# EAGLE library part M16C/20(56PIN) (library renesas_mcu)
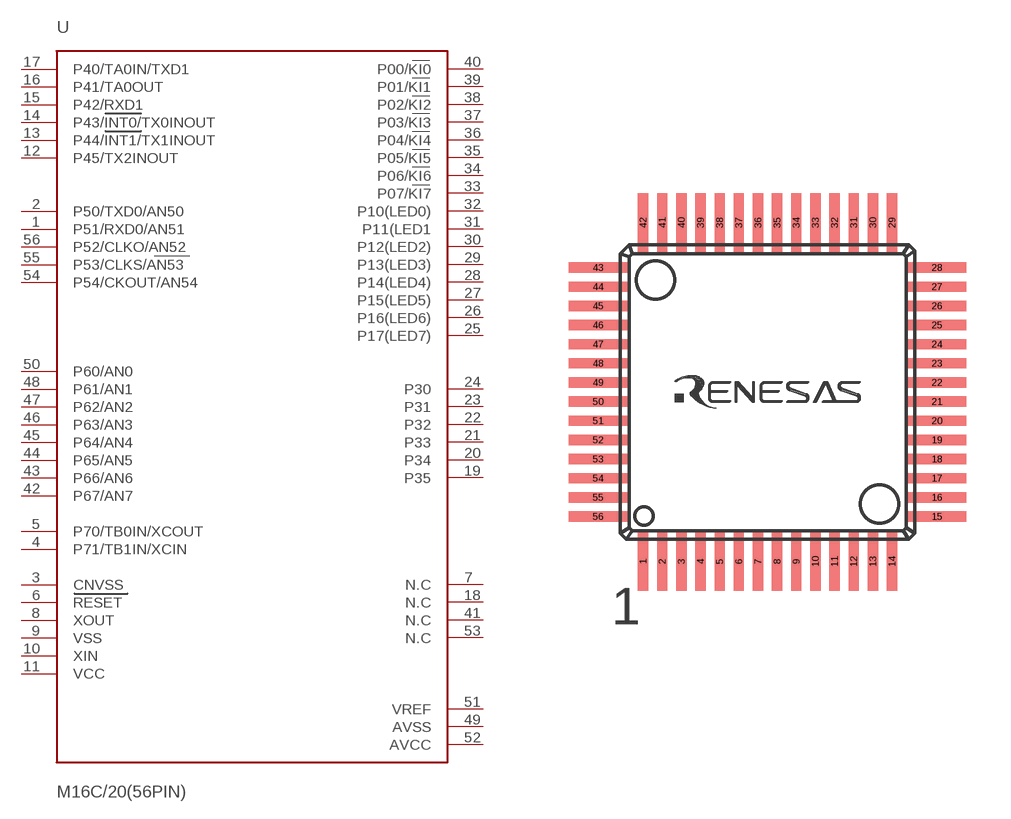
[diagram p34: symbol with the pads of 56P6S-A; footprint 56P6S-A]

Designator prefix -

## M16C/20(56PIN)  [56P6S-A]
1  P51/RXD0/AN51
2  P50/TXD0/AN50
3  CNVSS  in
4  P71/TB1IN/XCIN
5  P70/TB0IN/XCOUT
6  RESET  in
7  N.C  nc
8  XOUT  out
9  VSS  pwr
10  XIN  in
11  VCC  pwr
12  P45/TX2INOUT
13  P44/INT1/TX1INOUT
14  P43/INT0/TX0INOUT
15  P42/RXD1
16  P41/TA0OUT
17  P40/TA0IN/TXD1
18  N.C  nc
19  P35
20  P34
21  P33
22  P32
23  P31
24  P30
25  P17(LED7)
26  P16(LED6)
27  P15(LED5)
28  P14(LED4)
29  P13(LED3)
30  P12(LED2)
31  P11(LED1
32  P10(LED0)
33  P07/KI7
34  P06/KI6
35  P05/KI5
36  P04/KI4
37  P03/KI3
38  P02/KI2
39  P01/KI1
40  P00/KI0
41  N.C  nc
42  P67/AN7
43  P66/AN6
44  P65/AN5
45  P64/AN4
46  P63/AN3  in
47  P62/AN2
48  P61/AN1
49  AVSS  in
50  P60/AN0
51  VREF  in
52  AVCC  in
53  N.C  nc
54  P54/CKOUT/AN54
55  P53/CLKS/AN53
56  P52/CLKO/AN52

## Footprint 56P6S-A (pad centres in mm)
smd 0.35 x 2: 1 -4.225,-5.75; 2 -3.575,-5.75; 3 -2.925,-5.75; 4 -2.275,-5.75; 5 -1.625,-5.75; 6 -0.975,-5.75; 7 -0.325,-5.75; 8 0.325,-5.75; 9 0.975,-5.75; 10 1.625,-5.75; 11 2.275,-5.75; 12 2.925,-5.75; 13 3.575,-5.75; 14 4.225,-5.75; 29 4.225,5.75; 30 3.575,5.75; 31 2.925,5.75; 32 2.275,5.75; 33 1.625,5.75; 34 0.975,5.75; 35 0.325,5.75; 36 -0.325,5.75; 37 -0.975,5.75; 38 -1.625,5.75; 39 -2.275,5.75; 40 -2.925,5.75; 41 -3.575,5.75; 42 -4.225,5.75
smd 2 x 0.35: 15 5.75,-4.225; 16 5.75,-3.575; 17 5.75,-2.925; 18 5.75,-2.275; 19 5.75,-1.625; 20 5.75,-0.975; 21 5.75,-0.325; 22 5.75,0.325; 23 5.75,0.975; 24 5.75,1.625; 25 5.75,2.275; 26 5.75,2.925; 27 5.75,3.575; 28 5.75,4.225; 43 -5.75,4.225; 44 -5.75,3.575; 45 -5.75,2.925; 46 -5.75,2.275; 47 -5.75,1.625; 48 -5.75,0.975; 49 -5.75,0.325; 50 -5.75,-0.325; 51 -5.75,-0.975; 52 -5.75,-1.625; 53 -5.75,-2.275; 54 -5.75,-2.925; 55 -5.75,-3.575; 56 -5.75,-4.225